# Altium footprint library PPAK-SO-8.PcbLib: 1 footprints
Each footprint in its own frame and in the unit in brackets; x right, y up, seen from the top. Pads: shape width x height; smd on the part's side, far side on the other; paste and mask are expansions set on the pad; w line width, h text height; cw(c..) or ccw(c..) is an arc to the next point about the centre after c.
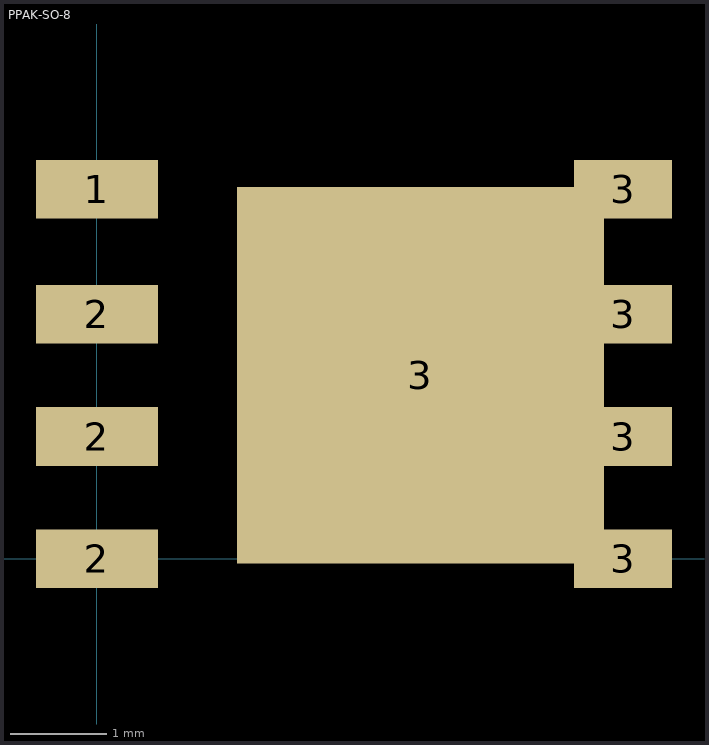
[diagram p0: the footprint, top view; thin cyan lines are the x and y axes]

## PPAK-SO-8 [mm] "PowerPAK SO-8"
pads (9):
  rect 1.27x0.61 smd: 1(0,3.84) 2(0,0) 2(0,1.27) 2(0,2.54)
  rect 3.81x3.91 smd: 3(3.36,1.905)
  rect 1.02x0.61 smd: 3(5.465,0) 3(5.465,1.27) 3(5.465,2.54) 3(5.465,3.84)